# EAGLE library part 7-215079-8 (library kotuku)
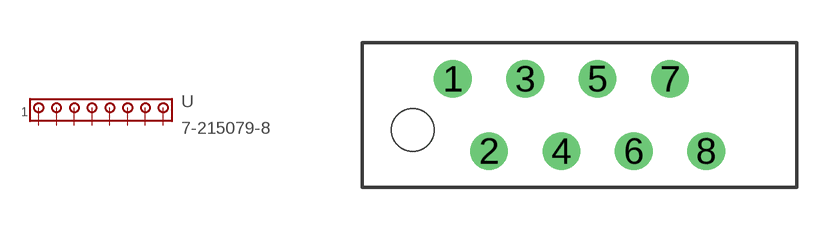
[diagram p23: symbol with the pads of 7-215079-8; footprint 7-215079-8]

Designator prefix -

## 7-215079-8  [7-215079-8]
1  1  pas
2  2  pas
3  3  pas
4  4  pas
5  5  pas
6  6  pas
7  7  pas
8  8  pas

## Footprint 7-215079-8 (pad centres in mm)
drill 0.813: 1 -4.445,1.27; 2 -3.175,-1.27; 3 -1.905,1.27; 4 -0.635,-1.27; 5 0.635,1.27; 6 1.905,-1.27; 7 3.175,1.27; 8 4.445,-1.27
hole 1.5 at -5.845,-0.53